# Altium footprint library PcbLib1.PcbLib: 9 footprints
Each footprint in its own frame and in the unit in brackets; x right, y up, seen from the top. Pads: shape width x height; smd on the part's side, far side on the other; paste and mask are expansions set on the pad; w line width, h text height; cw(c..) or ccw(c..) is an arc to the next point about the centre after c.
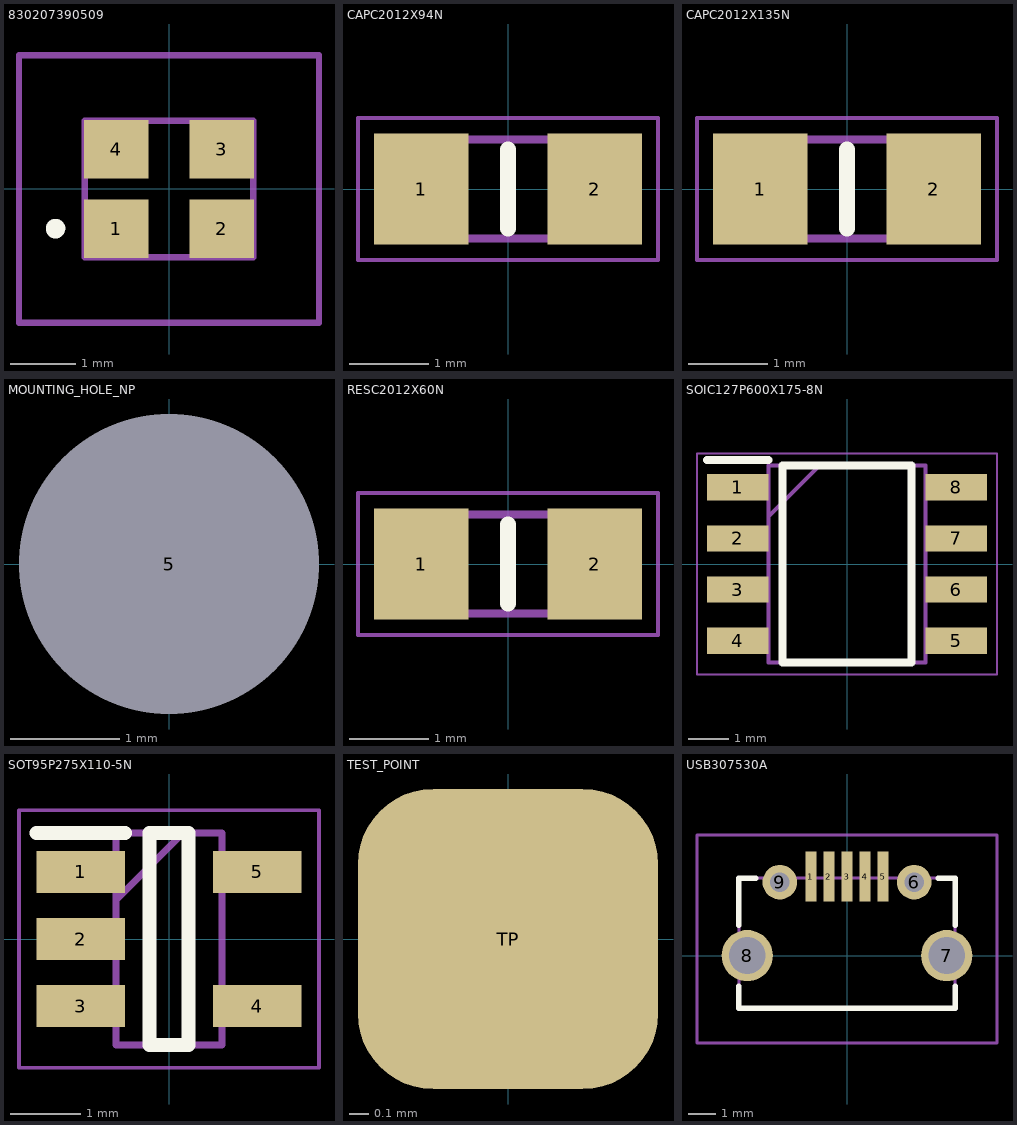
[diagram p0: the footprints below, top view; thin cyan lines are the x and y axes]

## 830207390509 [mm]
pads (4):
  rect 1x0.9 smd: 1(-0.813,-0.612) 2(0.812,-0.612) 3(0.812,0.612) 4(-0.813,0.612)
Top Overlay:
  lines w0.2: -1.699,-0.613 ccw(c-1.75,-0.613) -1.8,-0.613 ; -1.8,-0.613 ccw(c-1.75,-0.613) -1.701,-0.613 cw(c-1.75,-0.613) -1.8,-0.613
Mechanical 13:
  lines w0.1: -1.3,-1.05 1.3,-1.05 1.3,1.05 -1.3,1.05 -1.3,-1.05
Mechanical 15:
  lines w0.1: -2.313,-2.063 2.312,-2.063 2.312,2.062 -2.313,2.062 -2.313,-2.063
3D body "830207390509.stp": height 1.05, standoff 0, extent -1.3,-1.05 1.3,1.05

## CAPC2012X94N [mm]
pads (2):
  rect 1.2x1.4 smd: 1(-1.1,0) 2(1.1,0)
Top Overlay:
  lines w0.2: 0,-0.5 0,0.5
Mechanical 13:
  lines w0.1: -1,-0.625 1,-0.625 1,0.625 -1,0.625 -1,-0.625
Mechanical 15:
  lines w0.05: -1.9,-0.9 -1.9,0.9 1.9,0.9 1.9,-0.9 -1.9,-0.9
3D body "08055A4R3CAT2A.stp": height 0.94, standoff 0, extent -1.005,-0.625 1.005,0.625

## CAPC2012X135N [mm]
pads (2):
  rect 1.2x1.4 smd: 1(-1.1,0) 2(1.1,0)
Top Overlay:
  lines w0.2: 0,-0.5 0,0.5
Mechanical 13:
  lines w0.1: -1,-0.625 1,-0.625 1,0.625 -1,0.625 -1,-0.625
Mechanical 15:
  lines w0.05: -1.9,-0.9 -1.9,0.9 1.9,0.9 1.9,-0.9 -1.9,-0.9
3D body "885012107015.stp": height 1.35, standoff 0, extent -1,-0.625 1,0.625

## MOUNTING_HOLE_NP [mil]
pads (1):
  round 60 hole 108.27 unplated mask+86.61: 5(0,0)

## RESC2012X60N [mm]
pads (2):
  rect 1.2x1.4 smd: 1(-1.1,0) 2(1.1,0)
Top Overlay:
  lines w0.2: 0,-0.5 0,0.5
Mechanical 13:
  lines w0.1: -1,-0.625 -1,0.625 1,0.625 1,-0.625 -1,-0.625
Mechanical 15:
  lines w0.05: -1.9,-0.9 1.9,-0.9 1.9,0.9 -1.9,0.9 -1.9,-0.9
3D body "RC0805FR-0710KL.stp": height 0.6, standoff 0, extent -1,-0.625 1,0.625

## SOIC127P600X175-8N [mm]
pads (8):
  rect 1.525x0.65 smd: 1(-2.712,1.905) 2(-2.712,0.635) 3(-2.712,-0.635) 4(-2.712,-1.905) 5(2.712,-1.905) 6(2.712,-0.635) 7(2.712,0.635) 8(2.712,1.905)
Top Overlay:
  lines w0.2: -3.475,2.58 -1.95,2.58 ; -1.6,-2.45 -1.6,2.45 1.6,2.45 1.6,-2.45 -1.6,-2.45
Mechanical 13:
  lines w0.1: -1.95,1.18 -0.68,2.45 ; -1.95,-2.45 -1.95,2.45 1.95,2.45 1.95,-2.45 -1.95,-2.45
Mechanical 15:
  lines w0.05: -3.725,-2.75 -3.725,2.75 3.725,2.75 3.725,-2.75 -3.725,-2.75
3D body "STM32G030J6M6.stp": height 1.75, standoff 0, extent -3,-2.45 3,2.45

## SOT95P275X110-5N [mm]
pads (5):
  rect 1.25x0.6 smd: 1(-1.25,0.95) 2(-1.25,0) 3(-1.25,-0.95) 4(1.25,-0.95) 5(1.25,0.95)
Top Overlay:
  lines w0.2: -1.875,1.5 -0.625,1.5 ; -0.275,-1.5 -0.275,1.5 0.275,1.5 0.275,-1.5 -0.275,-1.5
Mechanical 13:
  lines w0.1: -0.75,0.55 0.2,1.5 ; -0.75,-1.5 -0.75,1.5 0.75,1.5 0.75,-1.5 -0.75,-1.5
Mechanical 15:
  lines w0.05: -2.125,-1.825 -2.125,1.825 2.125,1.825 2.125,-1.825 -2.125,-1.825
3D body "NCP115ASN330T2G.stp": height 1.1, standoff 0, extent -1.375,-1.5 1.375,1.5

## TEST_POINT [mil] "Test point"
pads (1):
  rrect50% 60x60 smd: TP(0,0)

## USB307530A [mm]
pads (9):
  rect 0.4x1.8 smd: 1(-1.3,2.85) 2(-0.65,2.85) 3(0,2.85) 4(0.65,2.85) 5(1.3,2.85)
  round 1.25 hole 0.7: 6(2.425,2.65) 9(-2.425,2.65)
  round 1.85 hole 1.328: 7(3.6,0) 8(-3.6,0)
Top Overlay:
  lines w0.2: -3.9,-1.1 -3.9,-1.9 3.9,-1.9 3.9,-1.1 ; -3.9,1.1 -3.9,2.8 -3.3,2.8 ; 3.3,2.8 3.9,2.8 3.9,1.1
Mechanical 13:
  lines w0.1: -3.9,-1.9 3.9,-1.9 3.9,2.8 -3.9,2.8 -3.9,-1.9
Mechanical 15:
  lines w0.1: -5.415,-3.15 5.415,-3.15 5.415,4.35 -5.415,4.35 -5.415,-3.15
3D body "USB3075-30-A.stp": height 2.49, standoff -1.17, extent -3.9,-2.765 3.9,2.775